# Altium footprint library 1053141116.PcbLib: 1 footprints
Each footprint in its own frame and in the unit in brackets; x right, y up, seen from the top. Pads: shape width x height; smd on the part's side, far side on the other; paste and mask are expansions set on the pad; w line width, h text height; cw(c..) or ccw(c..) is an arc to the next point about the centre after c.
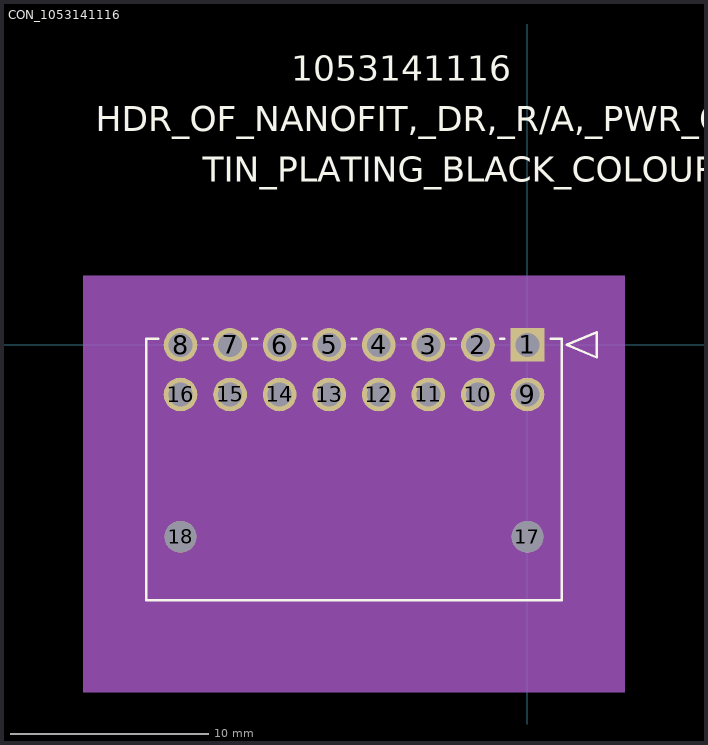
[diagram p0: the footprint, top view; thin cyan lines are the x and y axes]

## CON_1053141116 [mm]
pads (18):
  rect 1.7x1.7 hole 1.2 mask+0.076: 1(0,0)
  round 1.7 hole 1.2 mask+0.076: 2(-2.5,0) 3(-5,0) 4(-7.5,0) 5(-10,0) 6(-12.5,0) 7(-15,0) 8(-17.5,0) 9(0,-2.5) 10(-2.5,-2.5) 11(-5,-2.5) 12(-7.5,-2.5) 13(-10,-2.5) 14(-12.5,-2.5) 15(-15,-2.5) 16(-17.5,-2.5)
  round 1.6 hole 1.6 unplated mask+0.076: 17(0,-9.68) 18(-17.5,-9.68)
Top Overlay:
  lines w0.127: -18.628,0.31 -19.22,0.31 -19.22,-12.88 1.72,-12.88 1.72,0.31 1.17,0.31 ; -16.372,0.31 -16.128,0.31 ; -13.872,0.31 -13.628,0.31 ; -11.372,0.31 -11.128,0.31 ; -8.872,0.31 -8.628,0.31 ; -6.372,0.31 -6.128,0.31 ; -3.872,0.31 -3.628,0.31 ; -1.372,0.31 -1.17,0.31 ; 1.974,0 3.498,0.635 3.498,-0.635 1.974,0
  text "1053141116" at -11.925,13.309 h1.27
  text "HDR_OF_NANOFIT,_DR,_R/A,_PWR_CONN_-16_CKT" at -21.768,10.769 h1.27
  text "TIN_PLATING_BLACK_COLOUR" at -16.37,8.229 h1.27
Mechanical 3:
  text "NOTE" at -19.22,-21.272 h1.27
  text "MAXIMUM_PACKAGE_HEIGHT:_9.14_MM" at -19.22,-23.812 h1.27
  text "RECOMMENDED_PCB_THICKNESS:" at -19.22,-27.622 h1.27
  text "1.6_MM_TO_2.4_MM" at -19.22,-30.162 h1.27
Mechanical 5:
  region: -22.395,3.493 4.895,3.493 4.895,-17.515 -22.395,-17.515
Mechanical 10:
  text "NOTE" at -19.22,-21.272 h1.27
  text "MAXIMUM_PACKAGE_HEIGHT:_9.14_MM" at -19.22,-23.812 h1.27
  text "RECOMMENDED_PCB_THICKNESS:" at -19.22,-27.622 h1.27
  text "1.6_MM_TO_2.4_MM" at -19.22,-30.162 h1.27
Mechanical 13:
  lines w0.127: -19.22,-14.34 1.72,-14.34 1.72,0.318 -19.22,0.318 -19.22,-14.34 ; 1.974,0 3.498,0.635 3.498,-0.635 1.974,0
  text "1053141116" at -11.925,13.309 h1.27
  text "HDR_OF_NANOFIT,_DR,_R/A,_PWR_CONN_-16_CKT" at -21.768,10.769 h1.27
  text "TIN_PLATING_BLACK_COLOUR" at -16.37,8.229 h1.27
Mechanical 15:
  region: 2.99,1.588 -20.49,1.588 -20.49,-15.61 2.99,-15.61
  lines w0.127: -20.49,-15.61 -20.49,1.588 2.99,1.588 2.99,-15.61 -20.49,-15.61
3D body: height 0.25, standoff 0, extent 0,0 0.254,0.254